# Altium integrated library Res-SMD_V2.IntLib: 2369 symbols (part 11 of 18)
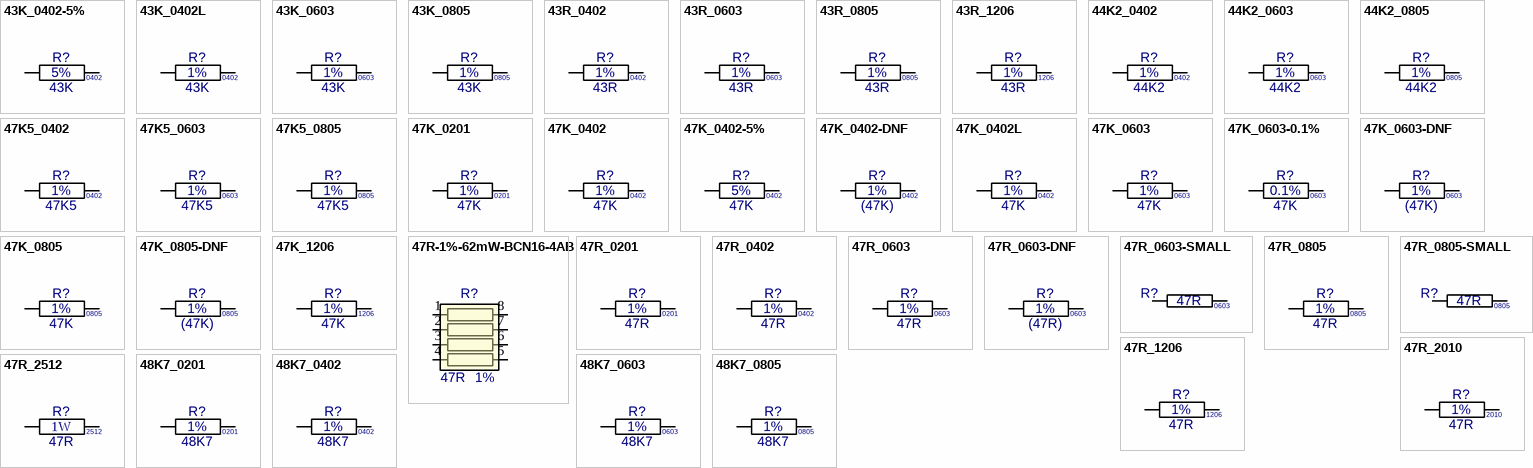
[diagram p69: symbols 43K_0402-5% to 48K7_0805]

## 47K_1206
designator R?, comment value 47K  Tol: 1%  Text1: 1206  (hidden comment: 47K_R1206_1%)
Resistor Chip SMD; Manufacturer: Various; Part Number: 47K 1206 1%; Watt: 250mW; Package: RESC1206X71N; EDM-PN: *; Text2: *; Reutech PN: *; SAAB PN: *; DCE Part No: *
footprint RESC1206X71N (Chip Resistor, 1206, 2-Leads, Body 3.2x1.6mm, IPC Medium Density)
pins: 1, 2

## 47R-1%-62mW-BCN16-4AB
designator R?, comment value 47R  Tol: 1%  (hidden comment: 47R-1%-62mW-BCN16-4AB-H)
Resistor Chip Array; Manufacturer: Bi Tech; Part Number: BCN164ABI-470F; Watt: 62mW; Package: BCN16-4AB; EDM-PN: *; Text2: *; Text1: *; Reutech PN: *; SAAB PN: *; DCE Part No: *
footprint BCN16-4AB (BCN 16 4 AB 1.6x3.2mm)
pins: 1, 2, 3, 4, 5, 6, 7, 8

## 47R_0201
designator R?, comment value 47R  Tol: 1%  Text1: 0201  (hidden comment: 47R_R0201_1%)
Resistor Chip SMD; Manufacturer: Various; Part Number: 47R 0201 1%; Watt: 31mW; Package: RESC0201X33N; EDM-PN: *; Text2: *; Reutech PN: *; SAAB PN: *; DCE Part No: *
footprint RESC0201X33N (Chip Resistor, 0201, 2-Leads, Body 0.6x0.3mm, IPC Medium Density)
pins: 1, 2

## 47R_0402
designator R?, comment value 47R  Tol: 1%  Text1: 0402  (hidden comment: 47R_R0402_1%)
Resistor Chip SMD; Manufacturer: Various; Part Number: 47R 0402 1%; Watt: 63mW; EDM-PN: RES1153; Package: RESC0402X40N; Text2: *; Reutech PN: *; SAAB PN: *; DCE Part No: *
footprint RESC0402X40N (Chip Resistor, 0402, 2-Leads, Body 1.1x0.5mm, IPC Medium Density)
pins: 1, 2

## 47R_0603
designator R?, comment value 47R  Tol: 1%  Text1: 0603  (hidden comment: 47R_R0603_1%)
Resistor Chip SMD; Manufacturer: Various; Part Number: 47R 0603 1%; Watt: 100mW; EDM-PN: RES621; Package: RESC0603X60N; Text2: *; Reutech PN: 5905-93-0047; SAAB PN: *; DCE Part No: *
footprint RESC0603X60N (Chip Resistor, 0603, 2-Leads, Body 1.6x0.8mm, IPC Medium Density)
pins: 1, 2

## 47R_0603-DNF
designator R?, comment value (47R)  Tol: 1%  Text1: 0603  (hidden comment: 47R_R0603_1%)
Resistor Chip SMD - Do not Fit; Manufacturer: Various; Part Number: DNF - 47R 0603 1%; Watt: 100mW; EDM-PN: RES621; Package: RESC0603X60N; Text2: *; Reutech PN: 5905-93-0047; SAAB PN: *; DCE Part No: *
footprint RESC0603X60N (Chip Resistor, 0603, 2-Leads, Body 1.6x0.8mm, IPC Medium Density)
pins: 1, 2

## 47R_0603-SMALL
designator R?, comment value 47R  Text1: 0603  (hidden comment: 47R_R0603_1%)
Resistor Chip SMD; Manufacturer: Various; Part Number: 47R 0603 1%; Watt: 100mW; Tol: 1%; Package: RESC0603X60N; EDM-PN: *; Text2: *; Reutech PN: *; SAAB PN: *; DCE Part No: *
footprint RESC0603X60N (Chip Resistor, 0603, 2-Leads, Body 1.6x0.8mm, IPC Medium Density)
pins: 1, 2

## 47R_0805
designator R?, comment value 47R  Tol: 1%  Text1: 0805  (hidden comment: 47R_R0805_1%)
Resistor Chip SMD; Manufacturer: Various; Part Number: 47R 0805 1%; Watt: 125mW; Package: RESC0805X65N; EDM-PN: *; Text2: *; Reutech PN: *; SAAB PN: *; DCE Part No: *
footprint RESC0805X65N (Chip Resistor, 0805, 2-Leads, Body 2.0x1.3mm, IPC Medium Density)
pins: 1, 2

## 47R_0805-SMALL
designator R?, comment value 47R  Text1: 0805  (hidden comment: 47R_R0805_1%)
Resistor Chip SMD; Manufacturer: Various; Part Number: 47R 0805 1%; Watt: 125mW; Tol: 1%; Package: RESC0805X65N; EDM-PN: *; Text2: *; Reutech PN: *; SAAB PN: *; DCE Part No: *
footprint RESC0805X65N (Chip Resistor, 0805, 2-Leads, Body 2.0x1.3mm, IPC Medium Density)
pins: 1, 2

## 47R_1206
designator R?, comment value 47R  Tol: 1%  Text1: 1206  (hidden comment: 47R_R1206_1%)
Resistor Chip SMD; Manufacturer: Various; Part Number: 47R 1206 1%; Watt: 250mW; EDM-PN: RES768; Package: RESC1206X71N; Text2: *; Reutech PN: *; SAAB PN: *; DCE Part No: *
footprint RESC1206X71N (Chip Resistor, 1206, 2-Leads, Body 3.2x1.6mm, IPC Medium Density)
pins: 1, 2

## 47R_2010
designator R?, comment value 47R  Tol: 1%  Text1: 2010  (hidden comment: 47R_R2010_1%)
Resistor Chip SMD; Manufacturer: Various; Part Number: 47R 2010 1%; Watt: 500mW; Package: RESC2010X71N; EDM-PN: *; Text2: *; Reutech PN: *; SAAB PN: *; DCE Part No: *
footprint RESC2010X71N (Chip Resistor, 2010, 2-Leads, Body 5.0x2.5mm, IPC Medium Density)
pins: 1, 2

## 47R_2512
designator R?, comment value 47R  Watt: 1W  Text1: 2512  (hidden comment: 47R_R2512_1%)
Resistor Chip SMD; Manufacturer: Various; Part Number: 47R 2512 1%; Tol: 1%; Package: RESC2512X71N; EDM-PN: *; Text2: *; Reutech PN: *; SAAB PN: *; DCE Part No: *
footprint RESC2512X71N (Chip Resistor, 2512, 2-Leads, Body 6.3x3.2mm, IPC Medium Density)
pins: 1, 2

## 48K7_0201
designator R?, comment value 48K7  Tol: 1%  Text1: 0201  (hidden comment: 48K7_R0201_1%)
Resistor Chip SMD; Manufacturer: Various; Part Number: 48K7 0201 1%; Watt: 31mW; Package: RESC0201X33N; EDM-PN: *; Text2: *; Reutech PN: *; SAAB PN: *; DCE Part No: *
footprint RESC0201X33N (Chip Resistor, 0201, 2-Leads, Body 0.6x0.3mm, IPC Medium Density)
pins: 1, 2

## 48K7_0402
designator R?, comment value 48K7  Tol: 1%  Text1: 0402  (hidden comment: 48K7_R0402_1%)
Resistor Chip SMD; Manufacturer: Various; Part Number: 48K7 0402 1%; Watt: 63mW; Package: RESC0402X40N; EDM-PN: *; Text2: *; Reutech PN: *; SAAB PN: *; DCE Part No: *
footprint RESC0402X40N (Chip Resistor, 0402, 2-Leads, Body 1.1x0.5mm, IPC Medium Density)
pins: 1, 2

## 48K7_0603
designator R?, comment value 48K7  Tol: 1%  Text1: 0603  (hidden comment: 48K7_R0603_1%)
Resistor Chip SMD; Manufacturer: Various; Part Number: 48K7 0603 1%; Watt: 100mW; Package: RESC0603X60N; EDM-PN: *; Text2: *; Reutech PN: 5905-93-4872; SAAB PN: *; DCE Part No: *
footprint RESC0603X60N (Chip Resistor, 0603, 2-Leads, Body 1.6x0.8mm, IPC Medium Density)
pins: 1, 2

## 48K7_0805
designator R?, comment value 48K7  Tol: 1%  Text1: 0805  (hidden comment: 48K7_R0805_1%)
Resistor Chip SMD; Manufacturer: Various; Part Number: 48K7 0805 1%; Watt: 125mW; Package: RESC0805X65N; EDM-PN: *; Text2: *; Reutech PN: *; SAAB PN: *; DCE Part No: *
footprint RESC0805X65N (Chip Resistor, 0805, 2-Leads, Body 2.0x1.3mm, IPC Medium Density)
pins: 1, 2

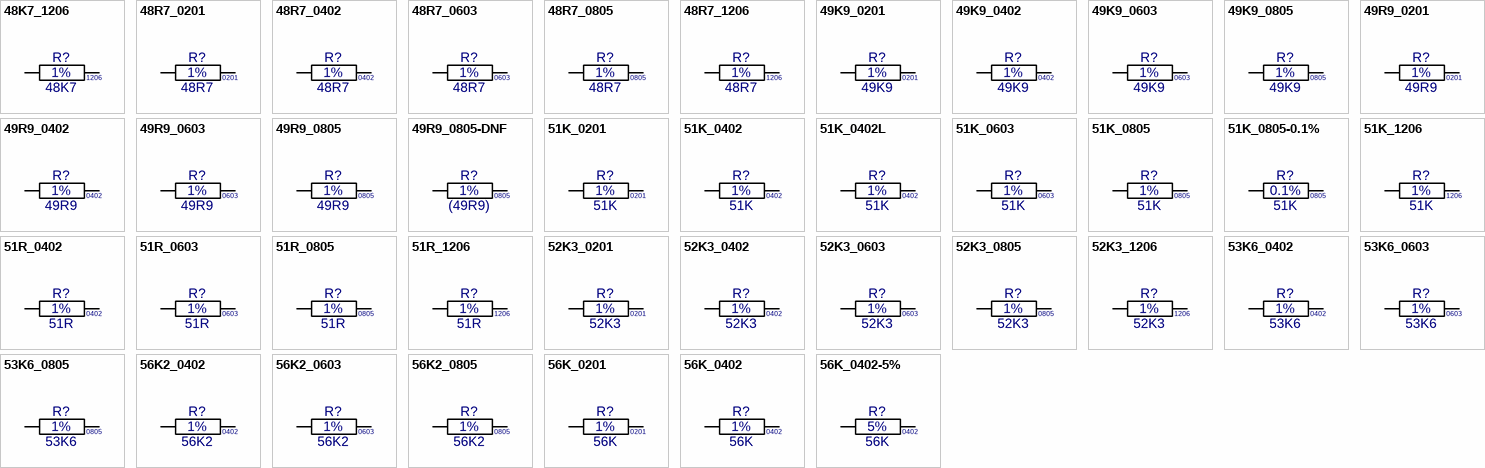
[diagram p34: symbols 48K7_1206 to 56K_0402-5%]

## 48K7_1206
designator R?, comment value 48K7  Tol: 1%  Text1: 1206  (hidden comment: 48K7_R1206_1%)
Resistor Chip SMD; Manufacturer: Various; Part Number: 48K7 1206 1%; Watt: 250mW; Package: RESC1206X71N; EDM-PN: *; Text2: *; Reutech PN: *; SAAB PN: *; DCE Part No: *
footprint RESC1206X71N (Chip Resistor, 1206, 2-Leads, Body 3.2x1.6mm, IPC Medium Density)
pins: 1, 2

## 48R7_0201
designator R?, comment value 48R7  Tol: 1%  Text1: 0201  (hidden comment: 48R7_R0201_1%)
Resistor Chip SMD; Manufacturer: Various; Part Number: 48R7 0201 1%; Watt: 31mW; Package: RESC0201X33N; EDM-PN: *; Text2: *; Reutech PN: *; SAAB PN: *; DCE Part No: *
footprint RESC0201X33N (Chip Resistor, 0201, 2-Leads, Body 0.6x0.3mm, IPC Medium Density)
pins: 1, 2

## 48R7_0402
designator R?, comment value 48R7  Tol: 1%  Text1: 0402  (hidden comment: 48R7_R0402_1%)
Resistor Chip SMD; Manufacturer: Various; Part Number: 48R7 0402 1%; Watt: 63mW; Package: RESC0402X40N; EDM-PN: *; Text2: *; Reutech PN: *; SAAB PN: *; DCE Part No: *
footprint RESC0402X40N (Chip Resistor, 0402, 2-Leads, Body 1.1x0.5mm, IPC Medium Density)
pins: 1, 2

## 48R7_0603
designator R?, comment value 48R7  Tol: 1%  Text1: 0603  (hidden comment: 48R7_R0603_1%)
Resistor Chip SMD; Manufacturer: Various; Part Number: 48R7 0603 1%; Watt: 100mW; Package: RESC0603X60N; EDM-PN: *; Text2: *; Reutech PN: *; SAAB PN: *; DCE Part No: *
footprint RESC0603X60N (Chip Resistor, 0603, 2-Leads, Body 1.6x0.8mm, IPC Medium Density)
pins: 1, 2

## 48R7_0805
designator R?, comment value 48R7  Tol: 1%  Text1: 0805  (hidden comment: 48R7_R0805_1%)
Resistor Chip SMD; Manufacturer: Various; Part Number: 48R7 0805 1%; Watt: 125mW; Package: RESC0805X65N; EDM-PN: *; Text2: *; Reutech PN: *; SAAB PN: *; DCE Part No: *
footprint RESC0805X65N (Chip Resistor, 0805, 2-Leads, Body 2.0x1.3mm, IPC Medium Density)
pins: 1, 2

## 48R7_1206
designator R?, comment value 48R7  Tol: 1%  Text1: 1206  (hidden comment: 48R7_R1206_1%)
Resistor Chip SMD; Manufacturer: Various; Part Number: 48R7 1206 1%; Watt: 250mW; Package: RESC1206X71N; EDM-PN: *; Text2: *; Reutech PN: *; SAAB PN: *; DCE Part No: *
footprint RESC1206X71N (Chip Resistor, 1206, 2-Leads, Body 3.2x1.6mm, IPC Medium Density)
pins: 1, 2

## 49K9_0201
designator R?, comment value 49K9  Tol: 1%  Text1: 0201  (hidden comment: 49K9_R0201_1%)
Resistor Chip SMD; Manufacturer: Various; Part Number: 49K9 0201 1%; Watt: 31mW; Package: RESC0201X33N; EDM-PN: *; Text2: *; Reutech PN: *; SAAB PN: *; DCE Part No: *
footprint RESC0201X33N (Chip Resistor, 0201, 2-Leads, Body 0.6x0.3mm, IPC Medium Density)
pins: 1, 2

## 49K9_0402
designator R?, comment value 49K9  Tol: 1%  Text1: 0402  (hidden comment: 49K9_R0402_1%)
Resistor Chip SMD; Manufacturer: Various; Part Number: 49K9 0402 1%; Watt: 63mW; EDM-PN: RES1568; Package: RESC0402X40N; Text2: *; Reutech PN: *; SAAB PN: *; DCE Part No: *
footprint RESC0402X40N (Chip Resistor, 0402, 2-Leads, Body 1.1x0.5mm, IPC Medium Density)
pins: 1, 2

## 49K9_0603
designator R?, comment value 49K9  Tol: 1%  Text1: 0603  (hidden comment: 49K9_R0603_1%)
Resistor Chip SMD; Manufacturer: Various; Part Number: 49K9 0603 1%; Watt: 100mW; EDM-PN: RES1039; Package: RESC0603X60N; Text2: *; Reutech PN: *; SAAB PN: *; DCE Part No: *
footprint RESC0603X60N (Chip Resistor, 0603, 2-Leads, Body 1.6x0.8mm, IPC Medium Density)
pins: 1, 2

## 49K9_0805
designator R?, comment value 49K9  Tol: 1%  Text1: 0805  (hidden comment: 49K9_R0805_1%)
Resistor Chip SMD; Manufacturer: Various; Part Number: 49K9 0805 1%; Watt: 125mW; Package: RESC0805X65N; EDM-PN: *; Text2: *; Reutech PN: *; SAAB PN: *; DCE Part No: *
footprint RESC0805X65N (Chip Resistor, 0805, 2-Leads, Body 2.0x1.3mm, IPC Medium Density)
pins: 1, 2

## 49R9_0201
designator R?, comment value 49R9  Tol: 1%  Text1: 0201  (hidden comment: 49R9_R0201_1%)
Resistor Chip SMD; Manufacturer: Various; Part Number: 49R9 0201 1%; Watt: 31mW; Package: RESC0201X33N; EDM-PN: *; Text2: *; Reutech PN: *; SAAB PN: *; DCE Part No: *
footprint RESC0201X33N (Chip Resistor, 0201, 2-Leads, Body 0.6x0.3mm, IPC Medium Density)
pins: 1, 2

## 49R9_0402
designator R?, comment value 49R9  Tol: 1%  Text1: 0402  (hidden comment: 49R9_R0402_1%)
Resistor Chip SMD; Manufacturer: Various; Part Number: 49R9 0402 1%; Watt: 63mW; Package: RESC0402X40N; EDM-PN: *; Text2: *; Reutech PN: *; SAAB PN: *; DCE Part No: *
footprint RESC0402X40N (Chip Resistor, 0402, 2-Leads, Body 1.1x0.5mm, IPC Medium Density)
pins: 1, 2

## 49R9_0603
designator R?, comment value 49R9  Tol: 1%  Text1: 0603  (hidden comment: 49R9_R0603_1%)
Resistor Chip SMD; Manufacturer: Various; Part Number: 49R9 0603 1%; Watt: 100mW; EDM-PN: RES831; Package: RESC0603X60N; Text2: *; Reutech PN: *; SAAB PN: *; DCE Part No: *
footprint RESC0603X60N (Chip Resistor, 0603, 2-Leads, Body 1.6x0.8mm, IPC Medium Density)
pins: 1, 2

## 49R9_0805
designator R?, comment value 49R9  Tol: 1%  Text1: 0805  (hidden comment: 49R9_R0805_1%)
Resistor Chip SMD; Manufacturer: Various; Part Number: 49R9 0805 1%; Watt: 125mW; EDM-PN: RES22; Package: RESC0805X65N; Text2: *; Reutech PN: *; SAAB PN: *; DCE Part No: *
footprint RESC0805X65N (Chip Resistor, 0805, 2-Leads, Body 2.0x1.3mm, IPC Medium Density)
pins: 1, 2

## 49R9_0805-DNF
designator R?, comment value (49R9)  Tol: 1%  Text1: 0805  (hidden comment: 49R9_R0805_1%-DNF)
Resistor Chip SMD - Do not Fit; Manufacturer: Various; Part Number: DNF - 49R9 0805 1%; Watt: 125mW; EDM-PN: RES22; Package: RESC0805X65N; Text2: *; Reutech PN: *; SAAB PN: *; DCE Part No: *
footprint RESC0805X65N (Chip Resistor, 0805, 2-Leads, Body 2.0x1.3mm, IPC Medium Density)
pins: 1, 2

## 51K_0201
designator R?, comment value 51K  Tol: 1%  Text1: 0201  (hidden comment: 51K_R0201_1%)
Resistor Chip SMD; Manufacturer: Various; Part Number: 51K 0201 1%; Watt: 31mW; Package: RESC0201X33N; EDM-PN: *; Text2: *; Reutech PN: *; SAAB PN: *; DCE Part No: *
footprint RESC0201X33N (Chip Resistor, 0201, 2-Leads, Body 0.6x0.3mm, IPC Medium Density)
pins: 1, 2

## 51K_0402
designator R?, comment value 51K  Tol: 1%  Text1: 0402  (hidden comment: 51K_R0402_1%)
Resistor Chip SMD; Manufacturer: Various; Part Number: 51K 0402 1%; DCE Part No: 7529; Watt: 63mW; Package: RESC0402X40N; EDM-PN: *; Text2: *; Reutech PN: *; SAAB PN: *
footprint RESC0402X40N (Chip Resistor, 0402, 2-Leads, Body 1.1x0.5mm, IPC Medium Density)
pins: 1, 2

## 51K_0402L
designator R?, comment value 51K  Tol: 1%  Text1: 0402  (hidden comment: 51K_R0402_1%)
Resistor Chip SMD; Manufacturer: Various; Part Number: 51K 0402 1%; DCE Part No: 7529; Watt: 63mW; Package: RESC0402X40L; EDM-PN: *; Text2: *; Reutech PN: *; SAAB PN: *
footprint RESC0402X40L (Chip Resistor, 0402, 2-Leads, Body 1.1x0.5mm, IPC High Density)
pins: 1, 2

## 51K_0603
designator R?, comment value 51K  Tol: 1%  Text1: 0603  (hidden comment: 51K_R0603_1%)
Resistor Chip SMD; Manufacturer: Various; Part Number: 51K 0603 1%; Watt: 100mW; EDM-PN: RES711; Package: RESC0603X60N; Text2: *; Reutech PN: *; SAAB PN: *; DCE Part No: *
footprint RESC0603X60N (Chip Resistor, 0603, 2-Leads, Body 1.6x0.8mm, IPC Medium Density)
pins: 1, 2

## 51K_0805
designator R?, comment value 51K  Tol: 1%  Text1: 0805  (hidden comment: 51K_R0805_1%)
Resistor Chip SMD; Manufacturer: Various; Part Number: 51K 0805 1%; Watt: 125mW; Package: RESC0805X65N; EDM-PN: *; Text2: *; Reutech PN: *; SAAB PN: *; DCE Part No: *
footprint RESC0805X65N (Chip Resistor, 0805, 2-Leads, Body 2.0x1.3mm, IPC Medium Density)
pins: 1, 2

## 51K_0805-0.1%
designator R?, comment value 51K  Tol: 0.1%  Text1: 0805  (hidden comment: 51K_R0805_0.1%)
Resistor Chip SMD; Manufacturer: Various; Part Number: 51K 0805 0.1%; Watt: 125mW; Package: RESC0805X65N; EDM-PN: *; Text2: *; Reutech PN: *; SAAB PN: *; DCE Part No: *
footprint RESC0805X65N (Chip Resistor, 0805, 2-Leads, Body 2.0x1.3mm, IPC Medium Density)
pins: 1, 2

## 51K_1206
designator R?, comment value 51K  Tol: 1%  Text1: 1206  (hidden comment: 51K_R1206_1%)
Resistor Chip SMD; Manufacturer: Various; Part Number: 51K 1206 1%; Watt: 250mW; Package: RESC1206X71N; EDM-PN: *; Text2: *; Reutech PN: *; SAAB PN: *; DCE Part No: *
footprint RESC1206X71N (Chip Resistor, 1206, 2-Leads, Body 3.2x1.6mm, IPC Medium Density)
pins: 1, 2

## 51R_0402
designator R?, comment value 51R  Tol: 1%  Text1: 0402  (hidden comment: 51R_R0402_1%)
Resistor Chip SMD; Manufacturer: Various; Part Number: 51R 0402 1%; Watt: 63mW; Package: RESC0402X40N; EDM-PN: *; Text2: *; Reutech PN: *; SAAB PN: *; DCE Part No: *
footprint RESC0402X40N (Chip Resistor, 0402, 2-Leads, Body 1.1x0.5mm, IPC Medium Density)
pins: 1, 2

## 51R_0603
designator R?, comment value 51R  Tol: 1%  Text1: 0603  (hidden comment: 51R_R0603_1%)
Resistor Chip SMD; Manufacturer: Various; Part Number: 51R 0603 1%; Watt: 100mW; Package: RESC0603X60N; EDM-PN: *; Text2: *; Reutech PN: 5905-93-0051; SAAB PN: *; DCE Part No: *
footprint RESC0603X60N (Chip Resistor, 0603, 2-Leads, Body 1.6x0.8mm, IPC Medium Density)
pins: 1, 2

## 51R_0805
designator R?, comment value 51R  Tol: 1%  Text1: 0805  (hidden comment: 51R_R0805_1%)
Resistor Chip SMD; Manufacturer: Various; Part Number: 51R 0805 1%; Watt: 125mW; Package: RESC0805X65N; EDM-PN: *; Text2: *; Reutech PN: *; SAAB PN: *; DCE Part No: *
footprint RESC0805X65N (Chip Resistor, 0805, 2-Leads, Body 2.0x1.3mm, IPC Medium Density)
pins: 1, 2

## 51R_1206
designator R?, comment value 51R  Tol: 1%  Text1: 1206  (hidden comment: 51R_R1206_1%)
Resistor Chip SMD; Manufacturer: Various; Part Number: 51R 1206 1%; Watt: 250mW; Package: RESC1206X71N; EDM-PN: *; Text2: *; Reutech PN: *; SAAB PN: *; DCE Part No: *
footprint RESC1206X71N (Chip Resistor, 1206, 2-Leads, Body 3.2x1.6mm, IPC Medium Density)
pins: 1, 2

## 52K3_0201
designator R?, comment value 52K3  Tol: 1%  Text1: 0201  (hidden comment: 52K3_R0201_1%)
Resistor Chip SMD; Manufacturer: Various; Part Number: 52K3 0201 1%; Watt: 31mW; Package: RESC0201X33N; EDM-PN: *; Text2: *; Reutech PN: *; SAAB PN: *; DCE Part No: *
footprint RESC0201X33N (Chip Resistor, 0201, 2-Leads, Body 0.6x0.3mm, IPC Medium Density)
pins: 1, 2

## 52K3_0402
designator R?, comment value 52K3  Tol: 1%  Text1: 0402  (hidden comment: 52K3_R0402_1%)
Resistor Chip SMD; Manufacturer: Various; Part Number: 52K3 0402 1%; Watt: 63mW; Package: RESC0402X40N; EDM-PN: *; Text2: *; Reutech PN: *; SAAB PN: *; DCE Part No: *
footprint RESC0402X40N (Chip Resistor, 0402, 2-Leads, Body 1.1x0.5mm, IPC Medium Density)
pins: 1, 2

## 52K3_0603
designator R?, comment value 52K3  Tol: 1%  Text1: 0603  (hidden comment: 52K3_R0603_1%)
Resistor Chip SMD; Manufacturer: Various; Part Number: 52K3 0603 1%; Watt: 100mW; Package: RESC0603X60N; EDM-PN: *; Text2: *; Reutech PN: *; SAAB PN: *; DCE Part No: *
footprint RESC0603X60N (Chip Resistor, 0603, 2-Leads, Body 1.6x0.8mm, IPC Medium Density)
pins: 1, 2

## 52K3_0805
designator R?, comment value 52K3  Tol: 1%  Text1: 0805  (hidden comment: 52K3_R0805_1%)
Resistor Chip SMD; Manufacturer: Various; Part Number: 52K3 0805 1%; Watt: 125mW; Package: RESC0805X65N; EDM-PN: *; Text2: *; Reutech PN: *; SAAB PN: *; DCE Part No: *
footprint RESC0805X65N (Chip Resistor, 0805, 2-Leads, Body 2.0x1.3mm, IPC Medium Density)
pins: 1, 2

## 52K3_1206
designator R?, comment value 52K3  Tol: 1%  Text1: 1206  (hidden comment: 52K3_R1206_1%)
Resistor Chip SMD; Manufacturer: Various; Part Number: 52K3 1206 1%; Watt: 250mW; Package: RESC1206X71N; EDM-PN: *; Text2: *; Reutech PN: *; SAAB PN: *; DCE Part No: *
footprint RESC1206X71N (Chip Resistor, 1206, 2-Leads, Body 3.2x1.6mm, IPC Medium Density)
pins: 1, 2

## 53K6_0402
designator R?, comment value 53K6  Tol: 1%  Text1: 0402  (hidden comment: 53K6_R0402_1%)
Resistor Chip SMD; Manufacturer: Various; Part Number: 53K6 0402 1%; Watt: 63mW; Package: RESC0402X40N; EDM-PN: *; Text2: *; Reutech PN: *; SAAB PN: *; DCE Part No: *
footprint RESC0402X40N (Chip Resistor, 0402, 2-Leads, Body 1.1x0.5mm, IPC Medium Density)
pins: 1, 2

## 53K6_0603
designator R?, comment value 53K6  Tol: 1%  Text1: 0603  (hidden comment: 53K6_R0603_1%)
Resistor Chip SMD; Manufacturer: Various; Part Number: 53K6 0603 1%; Watt: 100mW; Package: RESC0603X60N; EDM-PN: *; Text2: *; Reutech PN: *; SAAB PN: *; DCE Part No: *
footprint RESC0603X60N (Chip Resistor, 0603, 2-Leads, Body 1.6x0.8mm, IPC Medium Density)
pins: 1, 2

## 53K6_0805
designator R?, comment value 53K6  Tol: 1%  Text1: 0805  (hidden comment: 53K6_R0805_1%)
Resistor Chip SMD; Manufacturer: Various; Part Number: 53K6 0805 1%; Watt: 125mW; Package: RESC0805X65N; EDM-PN: *; Text2: *; Reutech PN: *; SAAB PN: *; DCE Part No: *
footprint RESC0805X65N (Chip Resistor, 0805, 2-Leads, Body 2.0x1.3mm, IPC Medium Density)
pins: 1, 2

## 56K2_0402
designator R?, comment value 56K2  Tol: 1%  Text1: 0402  (hidden comment: 56K2_R0402_1%)
Resistor Chip SMD; Manufacturer: Various; Part Number: 56K2 0402 1%; Watt: 63mW; Package: RESC0402X40N; EDM-PN: *; Text2: *; Reutech PN: *; SAAB PN: *; DCE Part No: *
footprint RESC0402X40N (Chip Resistor, 0402, 2-Leads, Body 1.1x0.5mm, IPC Medium Density)
pins: 1, 2

## 56K2_0603
designator R?, comment value 56K2  Tol: 1%  Text1: 0603  (hidden comment: 56K2_R0603_1%)
Resistor Chip SMD; Manufacturer: Various; Part Number: 56K2 0603 1%; Watt: 100mW; Package: RESC0603X60N; EDM-PN: *; Text2: *; Reutech PN: 5905-93-5622; SAAB PN: *; DCE Part No: *
footprint RESC0603X60N (Chip Resistor, 0603, 2-Leads, Body 1.6x0.8mm, IPC Medium Density)
pins: 1, 2

## 56K2_0805
designator R?, comment value 56K2  Tol: 1%  Text1: 0805  (hidden comment: 56K2_R0805_1%)
Resistor Chip SMD; Manufacturer: Various; Part Number: 56K2 0805 1%; Watt: 125mW; Package: RESC0805X65N; EDM-PN: *; Text2: *; Reutech PN: *; SAAB PN: *; DCE Part No: *
footprint RESC0805X65N (Chip Resistor, 0805, 2-Leads, Body 2.0x1.3mm, IPC Medium Density)
pins: 1, 2

## 56K_0201
designator R?, comment value 56K  Tol: 1%  Text1: 0201  (hidden comment: 56K_R0201_1%)
Resistor Chip SMD; Manufacturer: Various; Part Number: 56K 0201 1%; Watt: 31mW; Package: RESC0201X33N; EDM-PN: *; Text2: *; Reutech PN: *; SAAB PN: *; DCE Part No: *
footprint RESC0201X33N (Chip Resistor, 0201, 2-Leads, Body 0.6x0.3mm, IPC Medium Density)
pins: 1, 2

## 56K_0402
designator R?, comment value 56K  Tol: 1%  Text1: 0402  (hidden comment: 56K_R0402_1%)
Resistor Chip SMD; Manufacturer: Various; Part Number: 56K 0402 1%; Watt: 63mW; Package: RESC0402X40N; EDM-PN: *; Text2: *; Reutech PN: *; SAAB PN: *; DCE Part No: *
footprint RESC0402X40N (Chip Resistor, 0402, 2-Leads, Body 1.1x0.5mm, IPC Medium Density)
pins: 1, 2

## 56K_0402-5%
designator R?, comment value 56K  Tol: 5%  Text1: 0402  (hidden comment: 56K_R0402_5%)
Resistor Chip SMD; Manufacturer: Various; Part Number: 56K 0402 5%; Watt: 63mW; Package: RESC0402X40N; EDM-PN: *; Text2: *; Reutech PN: *; SAAB PN: *; DCE Part No: *
footprint RESC0402X40N (Chip Resistor, 0402, 2-Leads, Body 1.1x0.5mm, IPC Medium Density)
pins: 1, 2

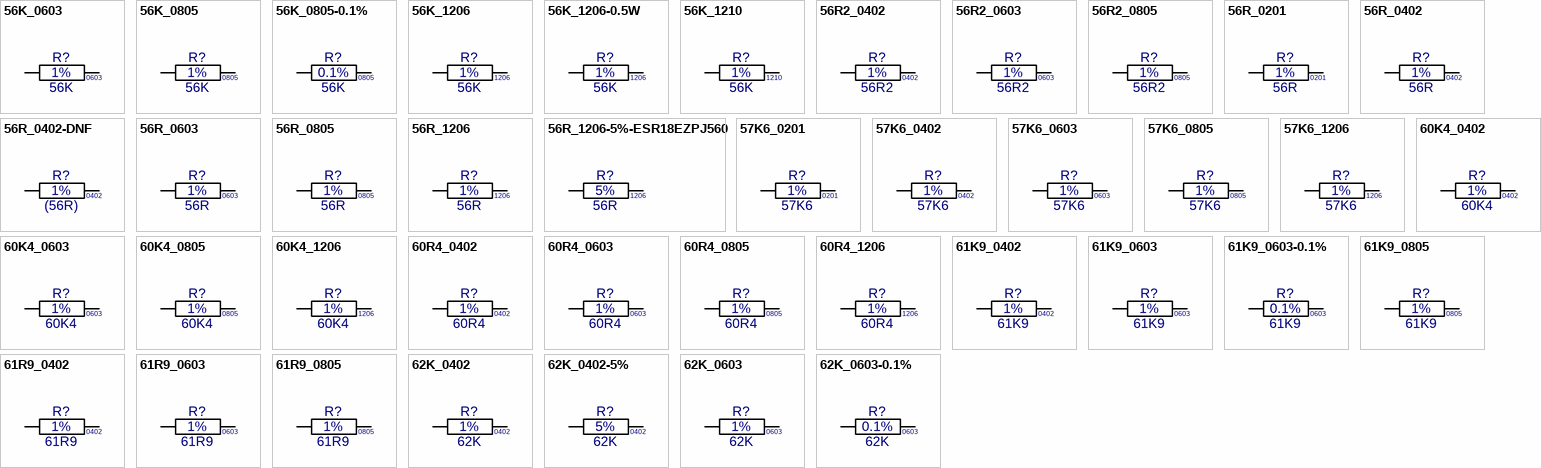
[diagram p35: symbols 56K_0603 to 62K_0603-0.1%]

## 56K_0603
designator R?, comment value 56K  Tol: 1%  Text1: 0603  (hidden comment: 56K_R0603_1%)
Resistor Chip SMD; Manufacturer: Various; Part Number: 56K 0603 1%; Watt: 100mW; EDM-PN: RES871; Package: RESC0603X60N; Text2: *; Reutech PN: 5905-93-5602; SAAB PN: *; DCE Part No: *
footprint RESC0603X60N (Chip Resistor, 0603, 2-Leads, Body 1.6x0.8mm, IPC Medium Density)
pins: 1, 2

## 56K_0805
designator R?, comment value 56K  Tol: 1%  Text1: 0805  (hidden comment: 56K_R0805_1%)
Resistor Chip SMD; Manufacturer: Various; Part Number: 56K 0805 1%; Watt: 125mW; Package: RESC0805X65N; EDM-PN: *; Text2: *; Reutech PN: *; SAAB PN: *; DCE Part No: *
footprint RESC0805X65N (Chip Resistor, 0805, 2-Leads, Body 2.0x1.3mm, IPC Medium Density)
pins: 1, 2

## 56K_0805-0.1%
designator R?, comment value 56K  Tol: 0.1%  Text1: 0805  (hidden comment: 56K_R0805_0.1%)
Resistor Chip SMD; Manufacturer: Various; Part Number: 56K 0805 0.1%; Watt: 125mW; Package: RESC0805X65N; EDM-PN: *; Text2: *; Reutech PN: *; SAAB PN: *; DCE Part No: *
footprint RESC0805X65N (Chip Resistor, 0805, 2-Leads, Body 2.0x1.3mm, IPC Medium Density)
pins: 1, 2

## 56K_1206
designator R?, comment value 56K  Tol: 1%  Text1: 1206  (hidden comment: 56K_R1206_1%)
Resistor Chip SMD; Manufacturer: Various; Part Number: 56K 1206 1%; Watt: 250mW; Package: RESC1206X71N; EDM-PN: *; Text2: *; Reutech PN: *; SAAB PN: *; DCE Part No: *
footprint RESC1206X71N (Chip Resistor, 1206, 2-Leads, Body 3.2x1.6mm, IPC Medium Density)
pins: 1, 2

## 56K_1206-0.5W
designator R?, comment value 56K  Tol: 1%  Text1: 1206  (hidden comment: 56K_R1206_1%-0.5W)
Resistor Thick Film; Manufacturer: Yageo; Part Number: RC1210FR-0756KL; Watt: 500mW; Package: RESC1206X71N; EDM-PN: *; Text2: *; Reutech PN: *; SAAB PN: *; DCE Part No: *
footprint RESC1206X71N (Chip Resistor, 1206, 2-Leads, Body 3.2x1.6mm, IPC Medium Density)
pins: 1, 2

## 56K_1210
designator R?, comment value 56K  Tol: 1%  Text1: 1210  (hidden comment: 56K_R1210_1%)
Resistor Chip SMD; Manufacturer: Various; Part Number: 56K 1210 1%; Watt: 500mW; Package: RESC1210X71N; EDM-PN: *; Text2: *; Reutech PN: *; SAAB PN: *; DCE Part No: *
footprint RESC1210X71N (Chip Resistor, 1210, 2-Leads, Body 3.2x2.5mm, IPC Medium Density)
pins: 1, 2

## 56R2_0402
designator R?, comment value 56R2  Tol: 1%  Text1: 0402  (hidden comment: 56R2_R0402_1%)
Resistor Chip SMD; Manufacturer: Various; Part Number: 56R2 0402 1%; Watt: 63mW; Package: RESC0402X40N; EDM-PN: *; Text2: *; Reutech PN: *; SAAB PN: *; DCE Part No: *
footprint RESC0402X40N (Chip Resistor, 0402, 2-Leads, Body 1.1x0.5mm, IPC Medium Density)
pins: 1, 2

## 56R2_0603
designator R?, comment value 56R2  Tol: 1%  Text1: 0603  (hidden comment: 56R2_R0603_1%)
Resistor Chip SMD; Manufacturer: Various; Part Number: 56R2 0603 1%; Watt: 100mW; Package: RESC0603X60N; EDM-PN: *; Text2: *; Reutech PN: *; SAAB PN: *; DCE Part No: *
footprint RESC0603X60N (Chip Resistor, 0603, 2-Leads, Body 1.6x0.8mm, IPC Medium Density)
pins: 1, 2

## 56R2_0805
designator R?, comment value 56R2  Tol: 1%  Text1: 0805  (hidden comment: 56R2_R0805_1%)
Resistor Chip SMD; Manufacturer: Various; Part Number: 56R2 0805 1%; Watt: 125mW; Package: RESC0805X65N; EDM-PN: *; Text2: *; Reutech PN: *; SAAB PN: *; DCE Part No: *
footprint RESC0805X65N (Chip Resistor, 0805, 2-Leads, Body 2.0x1.3mm, IPC Medium Density)
pins: 1, 2

## 56R_0201
designator R?, comment value 56R  Tol: 1%  Text1: 0201  (hidden comment: 56R_R0201_1%)
Resistor Chip SMD; Manufacturer: Various; Part Number: 56R 0201 1%; Watt: 31mW; Package: RESC0201X33N; EDM-PN: *; Text2: *; Reutech PN: *; SAAB PN: *; DCE Part No: *
footprint RESC0201X33N (Chip Resistor, 0201, 2-Leads, Body 0.6x0.3mm, IPC Medium Density)
pins: 1, 2

## 56R_0402
designator R?, comment value 56R  Tol: 1%  Text1: 0402  (hidden comment: 56R_R0402_1%)
Resistor Chip SMD; Manufacturer: Various; Part Number: 56R 0402 1%; Watt: 63mW; Package: RESC0402X40N; EDM-PN: *; Text2: *; Reutech PN: *; SAAB PN: *; DCE Part No: *
footprint RESC0402X40N (Chip Resistor, 0402, 2-Leads, Body 1.1x0.5mm, IPC Medium Density)
pins: 1, 2

## 56R_0402-DNF
designator R?, comment value (56R)  Tol: 1%  Text1: 0402  (hidden comment: 56R_R0402_1%-DNF)
Resistor Chip SMD - Do not Fit; Manufacturer: Various; Part Number: DNF - 56R 0402 1%; Watt: 63mW; Package: RESC0402X40N; EDM-PN: *; Text2: *; Reutech PN: *; SAAB PN: *; DCE Part No: *
footprint RESC0402X40N (Chip Resistor, 0402, 2-Leads, Body 1.1x0.5mm, IPC Medium Density)
pins: 1, 2

## 56R_0603
designator R?, comment value 56R  Tol: 1%  Text1: 0603  (hidden comment: 56R_R0603_1%)
Resistor Chip SMD; Manufacturer: Various; Part Number: 56R 0603 1%; Watt: 100mW; EDM-PN: RES236; Package: RESC0603X60N; Text2: *; Reutech PN: *; SAAB PN: *; DCE Part No: *
footprint RESC0603X60N (Chip Resistor, 0603, 2-Leads, Body 1.6x0.8mm, IPC Medium Density)
pins: 1, 2

## 56R_0805
designator R?, comment value 56R  Tol: 1%  Text1: 0805  (hidden comment: 56R_R0805_1%)
Resistor Chip SMD; Manufacturer: Various; Part Number: 56R 0805 1%; Watt: 125mW; EDM-PN: RES140; Package: RESC0805X65N; Text2: *; Reutech PN: *; SAAB PN: *; DCE Part No: *
footprint RESC0805X65N (Chip Resistor, 0805, 2-Leads, Body 2.0x1.3mm, IPC Medium Density)
pins: 1, 2

## 56R_1206
designator R?, comment value 56R  Tol: 1%  Text1: 1206  (hidden comment: 56R_R1206_1%)
Resistor Chip SMD; Manufacturer: Various; Part Number: 56R 1206 1%; Watt: 250mW; EDM-PN: RES625; Package: RESC1206X71N; Text2: *; Reutech PN: *; SAAB PN: *; DCE Part No: *
footprint RESC1206X71N (Chip Resistor, 1206, 2-Leads, Body 3.2x1.6mm, IPC Medium Density)
pins: 1, 2

## 56R_1206-5%-ESR18EZPJ560
designator R?, comment value 56R  Tol: 5%  Text1: 1206  (hidden comment: ESR18EZPJ560)
Resistor Thick Film Pulse Withstanding; Manufacturer: Rohm; Watt: 250mW; Part Number: ESR18EZPJ560; Package: RESC1206X71N; EDM-PN: *; Text2: *; Reutech PN: *; SAAB PN: *; DCE Part No: *
footprint RESC1206X71N (Chip Resistor, 1206, 2-Leads, Body 3.2x1.6mm, IPC Medium Density)
pins: 1, 2

## 57K6_0201
designator R?, comment value 57K6  Tol: 1%  Text1: 0201  (hidden comment: 57K6_R0201_1%)
Resistor Chip SMD; Manufacturer: Various; Part Number: 57K6 0201 1%; Watt: 31mW; Package: RESC0201X33N; EDM-PN: *; Text2: *; Reutech PN: *; SAAB PN: *; DCE Part No: *
footprint RESC0201X33N (Chip Resistor, 0201, 2-Leads, Body 0.6x0.3mm, IPC Medium Density)
pins: 1, 2

## 57K6_0402
designator R?, comment value 57K6  Tol: 1%  Text1: 0402  (hidden comment: 57K6_R0402_1%)
Resistor Chip SMD; Manufacturer: Various; Part Number: 57K6 0402 1%; Watt: 63mW; Package: RESC0402X40N; EDM-PN: *; Text2: *; Reutech PN: *; SAAB PN: *; DCE Part No: *
footprint RESC0402X40N (Chip Resistor, 0402, 2-Leads, Body 1.1x0.5mm, IPC Medium Density)
pins: 1, 2

## 57K6_0603
designator R?, comment value 57K6  Tol: 1%  Text1: 0603  (hidden comment: 57K6_R0603_1%)
Resistor Chip SMD; Manufacturer: Various; Part Number: 57K6 0603 1%; Watt: 100mW; Package: RESC0603X60N; EDM-PN: *; Text2: *; Reutech PN: *; SAAB PN: *; DCE Part No: *
footprint RESC0603X60N (Chip Resistor, 0603, 2-Leads, Body 1.6x0.8mm, IPC Medium Density)
pins: 1, 2

## 57K6_0805
designator R?, comment value 57K6  Tol: 1%  Text1: 0805  (hidden comment: 57K6_R0805_1%)
Resistor Chip SMD; Manufacturer: Various; Part Number: 57K6 0805 1%; Watt: 125mW; Package: RESC0805X65N; EDM-PN: *; Text2: *; Reutech PN: *; SAAB PN: *; DCE Part No: *
footprint RESC0805X65N (Chip Resistor, 0805, 2-Leads, Body 2.0x1.3mm, IPC Medium Density)
pins: 1, 2

## 57K6_1206
designator R?, comment value 57K6  Tol: 1%  Text1: 1206  (hidden comment: 57K6_R1206_1%)
Resistor Chip SMD; Manufacturer: Various; Part Number: 57K6 1206 1%; Watt: 250mW; Package: RESC1206X71N; EDM-PN: *; Text2: *; Reutech PN: *; SAAB PN: *; DCE Part No: *
footprint RESC1206X71N (Chip Resistor, 1206, 2-Leads, Body 3.2x1.6mm, IPC Medium Density)
pins: 1, 2

## 60K4_0402
designator R?, comment value 60K4  Tol: 1%  Text1: 0402  (hidden comment: 60K4_R0402_1%)
Resistor Chip SMD; Manufacturer: Various; Part Number: 60K4 0402 1%; Watt: 63mW; Package: RESC0402X40N; EDM-PN: *; Text2: *; Reutech PN: *; SAAB PN: *; DCE Part No: *
footprint RESC0402X40N (Chip Resistor, 0402, 2-Leads, Body 1.1x0.5mm, IPC Medium Density)
pins: 1, 2

## 60K4_0603
designator R?, comment value 60K4  Tol: 1%  Text1: 0603  (hidden comment: 60K4_R0603_1%)
Resistor Chip SMD; Manufacturer: Various; Part Number: 60K4 0603 1%; Watt: 100mW; EDM-PN: RES1371; Package: RESC0603X60N; Text2: *; Reutech PN: *; SAAB PN: *; DCE Part No: *
footprint RESC0603X60N (Chip Resistor, 0603, 2-Leads, Body 1.6x0.8mm, IPC Medium Density)
pins: 1, 2

## 60K4_0805
designator R?, comment value 60K4  Tol: 1%  Text1: 0805  (hidden comment: 60K4_R0805_1%)
Resistor Chip SMD; Manufacturer: Various; Part Number: 60K4 0805 1%; Watt: 125mW; Package: RESC0805X65N; EDM-PN: *; Text2: *; Reutech PN: *; SAAB PN: *; DCE Part No: *
footprint RESC0805X65N (Chip Resistor, 0805, 2-Leads, Body 2.0x1.3mm, IPC Medium Density)
pins: 1, 2

## 60K4_1206
designator R?, comment value 60K4  Tol: 1%  Text1: 1206  (hidden comment: 60K4_R1206_1%)
Resistor Chip SMD; Manufacturer: Various; Part Number: 60K4 1206 1%; Watt: 250mW; Package: RESC1206X71N; EDM-PN: *; Text2: *; Reutech PN: *; SAAB PN: *; DCE Part No: *
footprint RESC1206X71N (Chip Resistor, 1206, 2-Leads, Body 3.2x1.6mm, IPC Medium Density)
pins: 1, 2

## 60R4_0402
designator R?, comment value 60R4  Tol: 1%  Text1: 0402  (hidden comment: 60R4_R0402_1%)
Resistor Chip SMD; Manufacturer: Various; Part Number: 60R4 0402 1%; Watt: 63mW; EDM-PN: RES1588; Package: RESC0402X40N; Text2: *; Reutech PN: *; SAAB PN: *; DCE Part No: *
footprint RESC0402X40N (Chip Resistor, 0402, 2-Leads, Body 1.1x0.5mm, IPC Medium Density)
pins: 1, 2

## 60R4_0603
designator R?, comment value 60R4  Tol: 1%  Text1: 0603  (hidden comment: 60R4_R0603_1%)
Resistor Chip SMD; Manufacturer: Various; Part Number: 60R4 0603 1%; Watt: 100mW; Package: RESC0603X60N; EDM-PN: *; Text2: *; Reutech PN: *; SAAB PN: *; DCE Part No: *
footprint RESC0603X60N (Chip Resistor, 0603, 2-Leads, Body 1.6x0.8mm, IPC Medium Density)
pins: 1, 2

## 60R4_0805
designator R?, comment value 60R4  Tol: 1%  Text1: 0805  (hidden comment: 60R4_R0805_1%)
Resistor Chip SMD; Manufacturer: Various; Part Number: 60R4 0805 1%; Watt: 125mW; Package: RESC0805X65N; EDM-PN: *; Text2: *; Reutech PN: *; SAAB PN: *; DCE Part No: *
footprint RESC0805X65N (Chip Resistor, 0805, 2-Leads, Body 2.0x1.3mm, IPC Medium Density)
pins: 1, 2

## 60R4_1206
designator R?, comment value 60R4  Tol: 1%  Text1: 1206  (hidden comment: 60R4_R1206_1%)
Resistor Chip SMD; Manufacturer: Various; Part Number: 60R4 1206 1%; Watt: 250mW; Package: RESC1206X71N; EDM-PN: *; Text2: *; Reutech PN: *; SAAB PN: *; DCE Part No: *
footprint RESC1206X71N (Chip Resistor, 1206, 2-Leads, Body 3.2x1.6mm, IPC Medium Density)
pins: 1, 2

## 61K9_0402
designator R?, comment value 61K9  Tol: 1%  Text1: 0402  (hidden comment: 61K9_R0402_1%)
Resistor Chip SMD; Manufacturer: Various; Part Number: 61K9 0402 1%; Watt: 63mW; Package: RESC0402X40N; EDM-PN: *; Text2: *; Reutech PN: *; SAAB PN: *; DCE Part No: *
footprint RESC0402X40N (Chip Resistor, 0402, 2-Leads, Body 1.1x0.5mm, IPC Medium Density)
pins: 1, 2

## 61K9_0603
designator R?, comment value 61K9  Tol: 1%  Text1: 0603  (hidden comment: 61K9_R0603_1%)
Resistor Chip SMD; Manufacturer: Various; Part Number: 61K9 0603 1%; Watt: 100mW; Package: RESC0603X60N; EDM-PN: *; Text2: *; Reutech PN: *; SAAB PN: *; DCE Part No: *
footprint RESC0603X60N (Chip Resistor, 0603, 2-Leads, Body 1.6x0.8mm, IPC Medium Density)
pins: 1, 2

## 61K9_0603-0.1%
designator R?, comment value 61K9  Tol: 0.1%  Text1: 0603  (hidden comment: 61K9_R0603_0.1%)
Resistor Chip SMD; Manufacturer: Various; Part Number: 61K9 0603 0.1%; Watt: 100mW; Package: RESC0603X60N; EDM-PN: *; Text2: *; Reutech PN: *; SAAB PN: *; DCE Part No: *
footprint RESC0603X60N (Chip Resistor, 0603, 2-Leads, Body 1.6x0.8mm, IPC Medium Density)
pins: 1, 2

## 61K9_0805
designator R?, comment value 61K9  Tol: 1%  Text1: 0805  (hidden comment: 61K9_R0805_1%)
Resistor Chip SMD; Manufacturer: Various; Part Number: 61K9 0805 1%; Watt: 125mW; Package: RESC0805X65N; EDM-PN: *; Text2: *; Reutech PN: *; SAAB PN: *; DCE Part No: *
footprint RESC0805X65N (Chip Resistor, 0805, 2-Leads, Body 2.0x1.3mm, IPC Medium Density)
pins: 1, 2

## 61R9_0402
designator R?, comment value 61R9  Tol: 1%  Text1: 0402  (hidden comment: 61R9_R0402_1%)
Resistor Chip SMD; Manufacturer: Various; Part Number: 61R9 0402 1%; Watt: 63mW; Package: RESC0402X40N; EDM-PN: *; Text2: *; Reutech PN: *; SAAB PN: *; DCE Part No: *
footprint RESC0402X40N (Chip Resistor, 0402, 2-Leads, Body 1.1x0.5mm, IPC Medium Density)
pins: 1, 2

## 61R9_0603
designator R?, comment value 61R9  Tol: 1%  Text1: 0603  (hidden comment: 61R9_R0603_1%)
Resistor Chip SMD; Manufacturer: Various; Part Number: 61R9 0603 1%; Watt: 100mW; Package: RESC0603X60N; EDM-PN: *; Text2: *; Reutech PN: *; SAAB PN: *; DCE Part No: *
footprint RESC0603X60N (Chip Resistor, 0603, 2-Leads, Body 1.6x0.8mm, IPC Medium Density)
pins: 1, 2

## 61R9_0805
designator R?, comment value 61R9  Tol: 1%  Text1: 0805  (hidden comment: 61R9_R0805_1%)
Resistor Chip SMD; Manufacturer: Various; Part Number: 61R9 0805 1%; Watt: 125mW; Package: RESC0805X65N; EDM-PN: *; Text2: *; Reutech PN: *; SAAB PN: *; DCE Part No: *
footprint RESC0805X65N (Chip Resistor, 0805, 2-Leads, Body 2.0x1.3mm, IPC Medium Density)
pins: 1, 2

## 62K_0402
designator R?, comment value 62K  Tol: 1%  Text1: 0402  (hidden comment: 62K_R0402_1%)
Resistor Chip SMD; Manufacturer: Various; Part Number: 62K 0402 1%; Watt: 63mW; Package: RESC0402X40N; EDM-PN: *; Text2: *; Reutech PN: *; SAAB PN: *; DCE Part No: *
footprint RESC0402X40N (Chip Resistor, 0402, 2-Leads, Body 1.1x0.5mm, IPC Medium Density)
pins: 1, 2

## 62K_0402-5%
designator R?, comment value 62K  Tol: 5%  Text1: 0402  (hidden comment: 62K_R0402_5%)
Resistor Chip SMD; Manufacturer: Various; Part Number: 62K 0402 5%; Watt: 63mW; Package: RESC0402X40N; EDM-PN: *; Text2: *; Reutech PN: *; SAAB PN: *; DCE Part No: *
footprint RESC0402X40N (Chip Resistor, 0402, 2-Leads, Body 1.1x0.5mm, IPC Medium Density)
pins: 1, 2

## 62K_0603
designator R?, comment value 62K  Tol: 1%  Text1: 0603  (hidden comment: 62K_R0603_1%)
Resistor Chip SMD; Manufacturer: Various; Part Number: 62K 0603 1%; Watt: 100mW; EDM-PN: RES503; Package: RESC0603X60N; Text2: *; Reutech PN: 5905-93-6202; SAAB PN: *; DCE Part No: *
footprint RESC0603X60N (Chip Resistor, 0603, 2-Leads, Body 1.6x0.8mm, IPC Medium Density)
pins: 1, 2

## 62K_0603-0.1%
designator R?, comment value 62K  Tol: 0.1%  Text1: 0603  (hidden comment: 62K_R0603_0.1%)
Resistor Chip SMD; Manufacturer: Various; Part Number: 62K 0603 0.1%; Watt: 100mW; Package: RESC0603X60N; EDM-PN: *; Text2: *; Reutech PN: *; SAAB PN: *; DCE Part No: *
footprint RESC0603X60N (Chip Resistor, 0603, 2-Leads, Body 1.6x0.8mm, IPC Medium Density)
pins: 1, 2

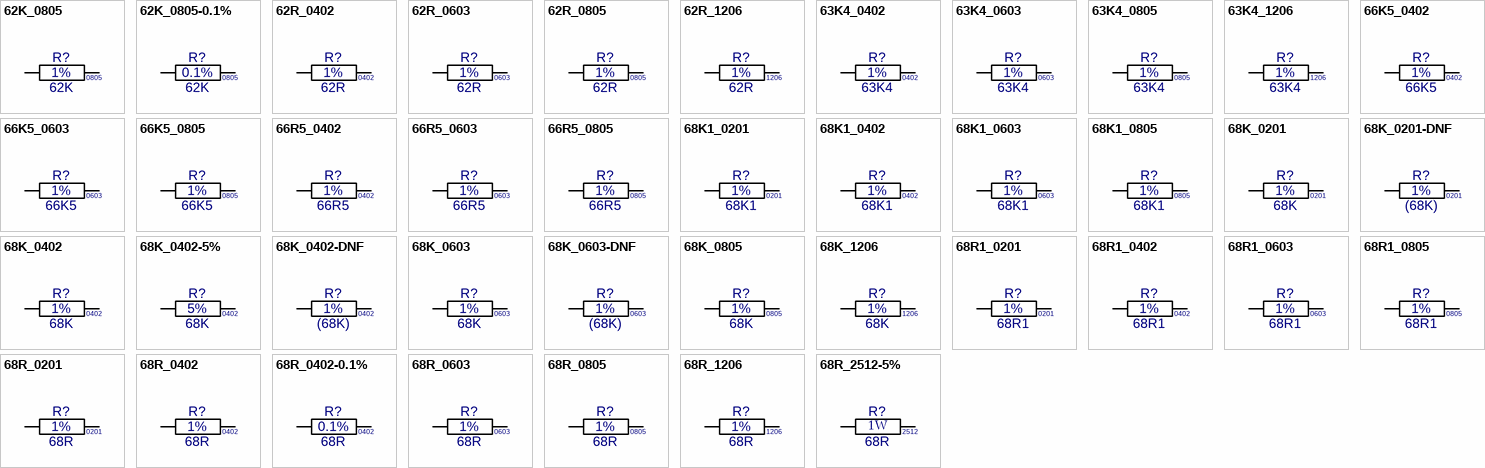
[diagram p36: symbols 62K_0805 to 68R_2512-5%]

## 62K_0805
designator R?, comment value 62K  Tol: 1%  Text1: 0805  (hidden comment: 62K_R0805_1%)
Resistor Chip SMD; Manufacturer: Various; Part Number: 62K 0805 1%; Watt: 125mW; Package: RESC0805X65N; EDM-PN: *; Text2: *; Reutech PN: *; SAAB PN: *; DCE Part No: *
footprint RESC0805X65N (Chip Resistor, 0805, 2-Leads, Body 2.0x1.3mm, IPC Medium Density)
pins: 1, 2

## 62K_0805-0.1%
designator R?, comment value 62K  Tol: 0.1%  Text1: 0805  (hidden comment: 62K_R0805_0.1%)
Resistor Chip SMD; Manufacturer: Various; Part Number: 62K 0805 0.1%; Watt: 125mW; Package: RESC0805X65N; EDM-PN: *; Text2: *; Reutech PN: *; SAAB PN: *; DCE Part No: *
footprint RESC0805X65N (Chip Resistor, 0805, 2-Leads, Body 2.0x1.3mm, IPC Medium Density)
pins: 1, 2

## 62R_0402
designator R?, comment value 62R  Tol: 1%  Text1: 0402  (hidden comment: 62R_R0402_1%)
Resistor Chip SMD; Manufacturer: Various; Part Number: 62R 0402 1%; Watt: 63mW; Package: RESC0402X40N; EDM-PN: *; Text2: *; Reutech PN: *; SAAB PN: *; DCE Part No: *
footprint RESC0402X40N (Chip Resistor, 0402, 2-Leads, Body 1.1x0.5mm, IPC Medium Density)
pins: 1, 2

## 62R_0603
designator R?, comment value 62R  Tol: 1%  Text1: 0603  (hidden comment: 62R_R0603_1%)
Resistor Chip SMD; Manufacturer: Various; Part Number: 62R 0603 1%; Watt: 100mW; Package: RESC0603X60N; EDM-PN: *; Text2: *; Reutech PN: *; SAAB PN: *; DCE Part No: *
footprint RESC0603X60N (Chip Resistor, 0603, 2-Leads, Body 1.6x0.8mm, IPC Medium Density)
pins: 1, 2

## 62R_0805
designator R?, comment value 62R  Tol: 1%  Text1: 0805  (hidden comment: 62R_R0805_1%)
Resistor Chip SMD; Manufacturer: Various; Part Number: 62R 0805 1%; Watt: 125mW; Package: RESC0805X65N; EDM-PN: *; Text2: *; Reutech PN: *; SAAB PN: *; DCE Part No: *
footprint RESC0805X65N (Chip Resistor, 0805, 2-Leads, Body 2.0x1.3mm, IPC Medium Density)
pins: 1, 2

## 62R_1206
designator R?, comment value 62R  Tol: 1%  Text1: 1206  (hidden comment: 62R_R1206_1%)
Resistor Chip SMD; Manufacturer: Various; Part Number: 62R 1206 1%; Watt: 250mW; Package: RESC1206X71N; EDM-PN: *; Text2: *; Reutech PN: *; SAAB PN: *; DCE Part No: *
footprint RESC1206X71N (Chip Resistor, 1206, 2-Leads, Body 3.2x1.6mm, IPC Medium Density)
pins: 1, 2

## 63K4_0402
designator R?, comment value 63K4  Tol: 1%  Text1: 0402  (hidden comment: 63K4_R0402_1%)
Resistor Chip SMD; Manufacturer: Various; Part Number: 63K4 0402 1%; Watt: 63mW; Package: RESC0402X40N; EDM-PN: *; Text2: *; Reutech PN: *; SAAB PN: *; DCE Part No: *
footprint RESC0402X40N (Chip Resistor, 0402, 2-Leads, Body 1.1x0.5mm, IPC Medium Density)
pins: 1, 2

## 63K4_0603
designator R?, comment value 63K4  Tol: 1%  Text1: 0603  (hidden comment: 63K4_R0603_1%)
Resistor Chip SMD; Manufacturer: Various; Part Number: 63K4 0603 1%; Watt: 100mW; Package: RESC0603X60N; EDM-PN: *; Text2: *; Reutech PN: *; SAAB PN: *; DCE Part No: *
footprint RESC0603X60N (Chip Resistor, 0603, 2-Leads, Body 1.6x0.8mm, IPC Medium Density)
pins: 1, 2

## 63K4_0805
designator R?, comment value 63K4  Tol: 1%  Text1: 0805  (hidden comment: 63K4_R0805_1%)
Resistor Chip SMD; Manufacturer: Various; Part Number: 63K4 0805 1%; Watt: 125mW; Package: RESC0805X65N; EDM-PN: *; Text2: *; Reutech PN: *; SAAB PN: *; DCE Part No: *
footprint RESC0805X65N (Chip Resistor, 0805, 2-Leads, Body 2.0x1.3mm, IPC Medium Density)
pins: 1, 2

## 63K4_1206
designator R?, comment value 63K4  Tol: 1%  Text1: 1206  (hidden comment: 63K4_R1206_1%)
Resistor Chip SMD; Manufacturer: Various; Part Number: 63K4 1206 1%; Watt: 250mW; Package: RESC1206X71N; EDM-PN: *; Text2: *; Reutech PN: *; SAAB PN: *; DCE Part No: *
footprint RESC1206X71N (Chip Resistor, 1206, 2-Leads, Body 3.2x1.6mm, IPC Medium Density)
pins: 1, 2

## 66K5_0402
designator R?, comment value 66K5  Tol: 1%  Text1: 0402  (hidden comment: 66K5_R0402_1%)
Resistor Chip SMD; Manufacturer: Various; Part Number: 66K5 0402 1%; Watt: 63mW; Package: RESC0402X40N; EDM-PN: *; Text2: *; Reutech PN: *; SAAB PN: *; DCE Part No: *
footprint RESC0402X40N (Chip Resistor, 0402, 2-Leads, Body 1.1x0.5mm, IPC Medium Density)
pins: 1, 2

## 66K5_0603
designator R?, comment value 66K5  Tol: 1%  Text1: 0603  (hidden comment: 66K5_R0603_1%)
Resistor Chip SMD; Manufacturer: Various; Part Number: 66K5 0603 1%; Watt: 100mW; Package: RESC0603X60N; EDM-PN: *; Text2: *; Reutech PN: *; SAAB PN: *; DCE Part No: *
footprint RESC0603X60N (Chip Resistor, 0603, 2-Leads, Body 1.6x0.8mm, IPC Medium Density)
pins: 1, 2

## 66K5_0805
designator R?, comment value 66K5  Tol: 1%  Text1: 0805  (hidden comment: 66K5_R0805_1%)
Resistor Chip SMD; Manufacturer: Various; Part Number: 66K5 0805 1%; Watt: 125mW; Package: RESC0805X65N; EDM-PN: *; Text2: *; Reutech PN: *; SAAB PN: *; DCE Part No: *
footprint RESC0805X65N (Chip Resistor, 0805, 2-Leads, Body 2.0x1.3mm, IPC Medium Density)
pins: 1, 2

## 66R5_0402
designator R?, comment value 66R5  Tol: 1%  Text1: 0402  (hidden comment: 66R5_R0402_1%)
Resistor Chip SMD; Manufacturer: Various; Part Number: 66R5 0402 1%; Watt: 63mW; Package: RESC0402X40N; EDM-PN: *; Text2: *; Reutech PN: *; SAAB PN: *; DCE Part No: *
footprint RESC0402X40N (Chip Resistor, 0402, 2-Leads, Body 1.1x0.5mm, IPC Medium Density)
pins: 1, 2

## 66R5_0603
designator R?, comment value 66R5  Tol: 1%  Text1: 0603  (hidden comment: 66R5_R0603_1%)
Resistor Chip SMD; Manufacturer: Various; Part Number: 66R5 0603 1%; Watt: 100mW; Package: RESC0603X60N; EDM-PN: *; Text2: *; Reutech PN: *; SAAB PN: *; DCE Part No: *
footprint RESC0603X60N (Chip Resistor, 0603, 2-Leads, Body 1.6x0.8mm, IPC Medium Density)
pins: 1, 2

## 66R5_0805
designator R?, comment value 66R5  Tol: 1%  Text1: 0805  (hidden comment: 66R5_R0805_1%)
Resistor Chip SMD; Manufacturer: Various; Part Number: 66R5 0805 1%; Watt: 125mW; Package: RESC0805X65N; EDM-PN: *; Text2: *; Reutech PN: *; SAAB PN: *; DCE Part No: *
footprint RESC0805X65N (Chip Resistor, 0805, 2-Leads, Body 2.0x1.3mm, IPC Medium Density)
pins: 1, 2

## 68K1_0201
designator R?, comment value 68K1  Tol: 1%  Text1: 0201  (hidden comment: 68K1_R0201_1%)
Resistor Chip SMD; Manufacturer: Various; Part Number: 68K1 0201 1%; Watt: 31mW; Package: RESC0201X33N; EDM-PN: *; Text2: *; Reutech PN: *; SAAB PN: *; DCE Part No: *
footprint RESC0201X33N (Chip Resistor, 0201, 2-Leads, Body 0.6x0.3mm, IPC Medium Density)
pins: 1, 2

## 68K1_0402
designator R?, comment value 68K1  Tol: 1%  Text1: 0402  (hidden comment: 68K1_R0402_1%)
Resistor Chip SMD; Manufacturer: Various; Part Number: 68K1 0402 1%; Watt: 63mW; Package: RESC0402X40N; EDM-PN: *; Text2: *; Reutech PN: *; SAAB PN: *; DCE Part No: *
footprint RESC0402X40N (Chip Resistor, 0402, 2-Leads, Body 1.1x0.5mm, IPC Medium Density)
pins: 1, 2

## 68K1_0603
designator R?, comment value 68K1  Tol: 1%  Text1: 0603  (hidden comment: 68K1_R0603_1%)
Resistor Chip SMD; Manufacturer: Various; Part Number: 68K1 0603 1%; Watt: 100mW; Package: RESC0603X60N; EDM-PN: *; Text2: *; Reutech PN: *; SAAB PN: *; DCE Part No: *
footprint RESC0603X60N (Chip Resistor, 0603, 2-Leads, Body 1.6x0.8mm, IPC Medium Density)
pins: 1, 2

## 68K1_0805
designator R?, comment value 68K1  Tol: 1%  Text1: 0805  (hidden comment: 68K1_R0805_1%)
Resistor Chip SMD; Manufacturer: Various; Part Number: 68K1 0805 1%; Watt: 125mW; Package: RESC0805X65N; EDM-PN: *; Text2: *; Reutech PN: *; SAAB PN: *; DCE Part No: *
footprint RESC0805X65N (Chip Resistor, 0805, 2-Leads, Body 2.0x1.3mm, IPC Medium Density)
pins: 1, 2

## 68K_0201
designator R?, comment value 68K  Tol: 1%  Text1: 0201  (hidden comment: 68K_R0201_1%)
Resistor Chip SMD; Manufacturer: Various; Part Number: 68K 0201 1%; Watt: 31mW; Package: RESC0201X33N; EDM-PN: *; Text2: *; Reutech PN: *; SAAB PN: *; DCE Part No: *
footprint RESC0201X33N (Chip Resistor, 0201, 2-Leads, Body 0.6x0.3mm, IPC Medium Density)
pins: 1, 2

## 68K_0201-DNF
designator R?, comment value (68K)  Tol: 1%  Text1: 0201  (hidden comment: 68K_R0201_1%-DNF)
Resistor Chip SMD - Do not Fit; Manufacturer: Various; Part Number: DNF - 68K 0201 1%; Watt: 31mW; Package: RESC0201X33N; EDM-PN: *; Text2: *; Reutech PN: *; SAAB PN: *; DCE Part No: *
footprint RESC0201X33N (Chip Resistor, 0201, 2-Leads, Body 0.6x0.3mm, IPC Medium Density)
pins: 1, 2

## 68K_0402
designator R?, comment value 68K  Tol: 1%  Text1: 0402  (hidden comment: 68K_R0402_1%)
Resistor Chip SMD; Manufacturer: Various; Part Number: 68K 0402 1%; Watt: 63mW; EDM-PN: RES1147; SAAB PN: 1ACF01168AEA; Package: RESC0402X40N; Text2: *; Reutech PN: *; DCE Part No: *
footprint RESC0402X40N (Chip Resistor, 0402, 2-Leads, Body 1.1x0.5mm, IPC Medium Density)
pins: 1, 2

## 68K_0402-5%
designator R?, comment value 68K  Tol: 5%  Text1: 0402  (hidden comment: 68K_R0402_5%)
Resistor Chip SMD; Manufacturer: Various; Part Number: 68K 0402 5%; Watt: 63mW; Package: RESC0402X40N; EDM-PN: *; Text2: *; Reutech PN: *; SAAB PN: *; DCE Part No: *
footprint RESC0402X40N (Chip Resistor, 0402, 2-Leads, Body 1.1x0.5mm, IPC Medium Density)
pins: 1, 2

## 68K_0402-DNF
designator R?, comment value (68K)  Tol: 1%  Text1: 0402  (hidden comment: 68K_R0402_1%-DNF)
Resistor Chip SMD - Do not Fit; Manufacturer: Various; Part Number: DNF - 68K 0402 1%; Watt: 63mW; Package: RESC0402X40N; EDM-PN: *; Text2: *; Reutech PN: *; SAAB PN: *; DCE Part No: *
footprint RESC0402X40N (Chip Resistor, 0402, 2-Leads, Body 1.1x0.5mm, IPC Medium Density)
pins: 1, 2

## 68K_0603
designator R?, comment value 68K  Tol: 1%  Text1: 0603  (hidden comment: 68K_R0603_1%)
Resistor Chip SMD; Manufacturer: Various; Part Number: 68K 0603 1%; Watt: 100mW; EDM-PN: RES502; Package: RESC0603X60N; Text2: *; Reutech PN: 5905-93-6802; SAAB PN: *; DCE Part No: *
footprint RESC0603X60N (Chip Resistor, 0603, 2-Leads, Body 1.6x0.8mm, IPC Medium Density)
pins: 1, 2

## 68K_0603-DNF
designator R?, comment value (68K)  Tol: 1%  Text1: 0603  (hidden comment: 68K_R0603_1%-DNF)
Resistor Chip SMD - Do not Fit; Manufacturer: Various; Part Number: DNF - 68K 0603 1%; Watt: 100mW; EDM-PN: RES502; Package: RESC0603X60N; Text2: *; Reutech PN: 5905-93-6802; SAAB PN: *; DCE Part No: *
footprint RESC0603X60N (Chip Resistor, 0603, 2-Leads, Body 1.6x0.8mm, IPC Medium Density)
pins: 1, 2

## 68K_0805
designator R?, comment value 68K  Tol: 1%  Text1: 0805  (hidden comment: 68K_R0805_1%)
Resistor Chip SMD; Manufacturer: Various; Part Number: 68K 0805 1%; Watt: 125mW; EDM-PN: RES29; Package: RESC0805X65N; Text2: *; Reutech PN: *; SAAB PN: *; DCE Part No: *
footprint RESC0805X65N (Chip Resistor, 0805, 2-Leads, Body 2.0x1.3mm, IPC Medium Density)
pins: 1, 2

## 68K_1206
designator R?, comment value 68K  Tol: 1%  Text1: 1206  (hidden comment: 68K_R1206_1%)
Resistor Chip SMD; Manufacturer: Various; Part Number: 68K 1206 1%; Watt: 250mW; Package: RESC1206X71N; EDM-PN: *; Text2: *; Reutech PN: *; SAAB PN: *; DCE Part No: *
footprint RESC1206X71N (Chip Resistor, 1206, 2-Leads, Body 3.2x1.6mm, IPC Medium Density)
pins: 1, 2

## 68R1_0201
designator R?, comment value 68R1  Tol: 1%  Text1: 0201  (hidden comment: 68R1_R0201_1%)
Resistor Chip SMD; Manufacturer: Various; Part Number: 68R1 0201 1%; Watt: 31mW; Package: RESC0201X33N; EDM-PN: *; Text2: *; Reutech PN: *; SAAB PN: *; DCE Part No: *
footprint RESC0201X33N (Chip Resistor, 0201, 2-Leads, Body 0.6x0.3mm, IPC Medium Density)
pins: 1, 2

## 68R1_0402
designator R?, comment value 68R1  Tol: 1%  Text1: 0402  (hidden comment: 68R1_R0402_1%)
Resistor Chip SMD; Manufacturer: Various; Part Number: 68R1 0402 1%; Watt: 63mW; Package: RESC0402X40N; EDM-PN: *; Text2: *; Reutech PN: *; SAAB PN: *; DCE Part No: *
footprint RESC0402X40N (Chip Resistor, 0402, 2-Leads, Body 1.1x0.5mm, IPC Medium Density)
pins: 1, 2

## 68R1_0603
designator R?, comment value 68R1  Tol: 1%  Text1: 0603  (hidden comment: 68R1_R0603_1%)
Resistor Chip SMD; Manufacturer: Various; Part Number: 68R1 0603 1%; Watt: 100mW; Package: RESC0603X60N; EDM-PN: *; Text2: *; Reutech PN: *; SAAB PN: *; DCE Part No: *
footprint RESC0603X60N (Chip Resistor, 0603, 2-Leads, Body 1.6x0.8mm, IPC Medium Density)
pins: 1, 2

## 68R1_0805
designator R?, comment value 68R1  Tol: 1%  Text1: 0805  (hidden comment: 68R1_R0805_1%)
Resistor Chip SMD; Manufacturer: Various; Part Number: 68R1 0805 1%; Watt: 125mW; Package: RESC0805X65N; EDM-PN: *; Text2: *; Reutech PN: *; SAAB PN: *; DCE Part No: *
footprint RESC0805X65N (Chip Resistor, 0805, 2-Leads, Body 2.0x1.3mm, IPC Medium Density)
pins: 1, 2

## 68R_0201
designator R?, comment value 68R  Tol: 1%  Text1: 0201  (hidden comment: 68R_R0201_1%)
Resistor Chip SMD; Manufacturer: Various; Part Number: 68R 0201 1%; Watt: 31mW; Package: RESC0201X33N; EDM-PN: *; Text2: *; Reutech PN: *; SAAB PN: *; DCE Part No: *
footprint RESC0201X33N (Chip Resistor, 0201, 2-Leads, Body 0.6x0.3mm, IPC Medium Density)
pins: 1, 2

## 68R_0402
designator R?, comment value 68R  Tol: 1%  Text1: 0402  (hidden comment: 68R_R0402_1%)
Resistor Chip SMD; Manufacturer: Various; Part Number: 68R 0402 1%; Watt: 63mW; Package: RESC0402X40N; EDM-PN: *; Text2: *; Reutech PN: *; SAAB PN: *; DCE Part No: *
footprint RESC0402X40N (Chip Resistor, 0402, 2-Leads, Body 1.1x0.5mm, IPC Medium Density)
pins: 1, 2

## 68R_0402-0.1%
designator R?, comment value 68R  Tol: 0.1%  Text1: 0402  (hidden comment: 68R_R0402_0.1%)
Resistor Chip SMD; Manufacturer: Various; Part Number: 68R 0402 0.1%; Watt: 63mW; Package: RESC0402X40N; EDM-PN: *; Text2: *; Reutech PN: *; SAAB PN: *; DCE Part No: *
footprint RESC0402X40N (Chip Resistor, 0402, 2-Leads, Body 1.1x0.5mm, IPC Medium Density)
pins: 1, 2

## 68R_0603
designator R?, comment value 68R  Tol: 1%  Text1: 0603  (hidden comment: 68R_R0603_1%)
Resistor Chip SMD; Manufacturer: Various; Part Number: 68R 0603 1%; Watt: 100mW; EDM-PN: RES238; Package: RESC0603X60N; Text2: *; Reutech PN: 5905-93-0068; SAAB PN: *; DCE Part No: *
footprint RESC0603X60N (Chip Resistor, 0603, 2-Leads, Body 1.6x0.8mm, IPC Medium Density)
pins: 1, 2